# Altium schematic symbol library 06035C104KAT2A.SchLib: 1 symbol
Pins are listed as number, name and electrical type; pins without a type are passive.

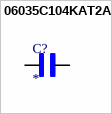
[diagram p0: symbol 06035C104KAT2A]

## 06035C104KAT2A
designator C?
<a href="https://pricing.snapeda.com/parts/06035C104KAT2A/AVX/view-part?ref=eda">Check availability</a>; MF: {'manufacturer': u'AVX'}; Package: None; Price: None; Value: *; MP: 06035C104KAT2A; Availability: Unavailable
footprint CAPC1608X90N
pins: 1, 2